# EAGLE library part MAG45_LED (library lib_stankus)
Mag45 with LEDs Farnell #1630005 (5-6605758-1)
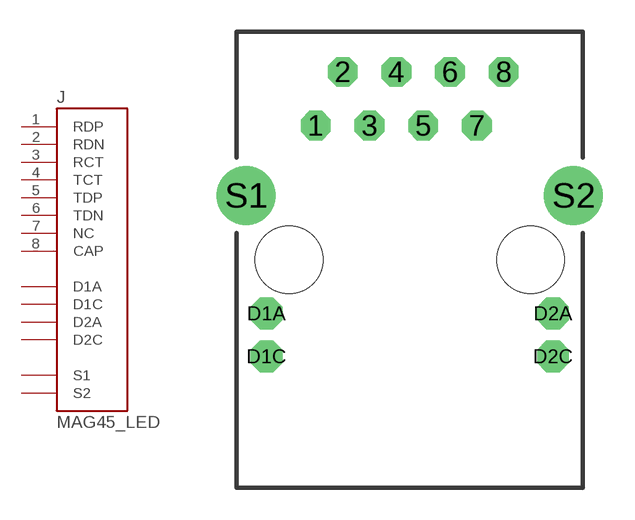
[diagram p50: symbol with the pads of RJ45_LED; footprint RJ45_LED]

Designator prefix J

## MAG45_LED  [RJ45_LED]
1  RDP  pas
2  RDN  pas
3  RCT  pas
4  TCT  pas
5  TDP  pas
6  TDN  pas
7  NC  nc
8  CAP  pas
D1A  D1A  pas
D1C  D1C  pas
D2A  D2A  pas
D2C  D2C  pas
S1  S1  pas
S2  S2  pas

## Footprint RJ45_LED (pad centres in mm)
RJ45 WITH LED
drill 0.9 octagon: 1 -4.445,6.35; 2 -3.175,8.89; 3 -1.905,6.35; 4 -0.635,8.89; 5 0.635,6.35; 6 1.905,8.89; 7 3.175,6.35; 8 4.445,8.89
drill 1 octagon: D1A -6.782,-2.54; D1C -6.782,-4.572; D2A 6.782,-2.54; D2C 6.782,-4.572
drill 1.6 pad 2.794 round: S1 -7.747,3.048; S2 7.747,3.048
hole 3.2 at -5.715,0
hole 3.2 at 5.715,0